# Altium footprint library Button_Switch_SMD.PcbLib: 169 footprints (part 12 of 12)
Each footprint in its own frame and in the unit in brackets; x right, y up, seen from the top. Pads: shape width x height; smd on the part's side, far side on the other; paste and mask are expansions set on the pad; w line width, h text height; cw(c..) or ccw(c..) is an arc to the next point about the centre after c.
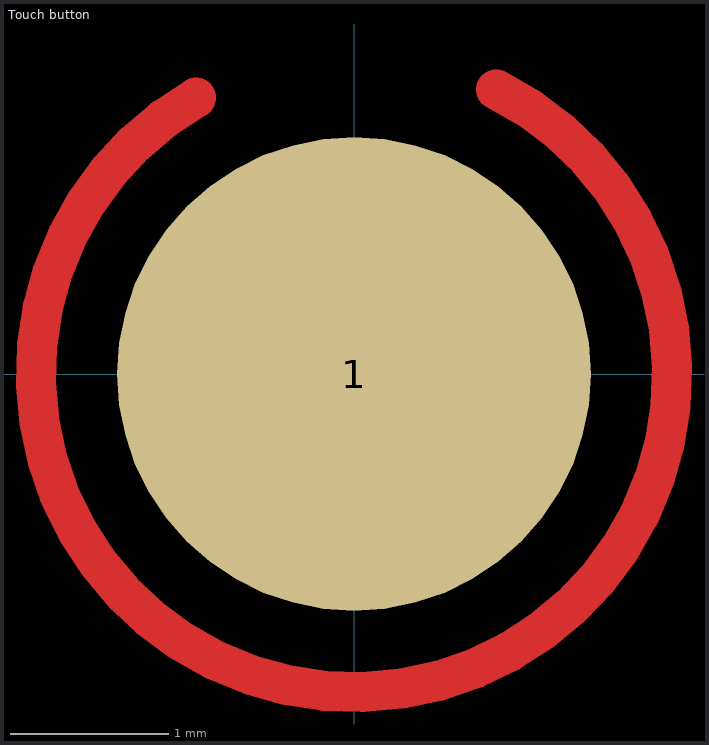
[diagram p11: the footprint, top view; thin cyan lines are the x and y axes]

## Touch button [mm] "Touch button"
pads (1):
  round 3 smd: 1(0,0)
F.Cu:
  lines w0.254: -1,1.75 ccw(c0,0) 0.901,1.803
Top Component Center:
  lines w0.127: -0.127,0 0.127,0 ; 0,-0.127 0,0.127
Top Designator:
  text ".Designator" at -3.432,-0.345 h1.52